# Altium footprint library BGC_LSW_Lib.PcbLib: 8 footprints
Each footprint in its own frame and in the unit in brackets; x right, y up, seen from the top. Pads: shape width x height; smd on the part's side, far side on the other; paste and mask are expansions set on the pad; w line width, h text height; cw(c..) or ccw(c..) is an arc to the next point about the centre after c.
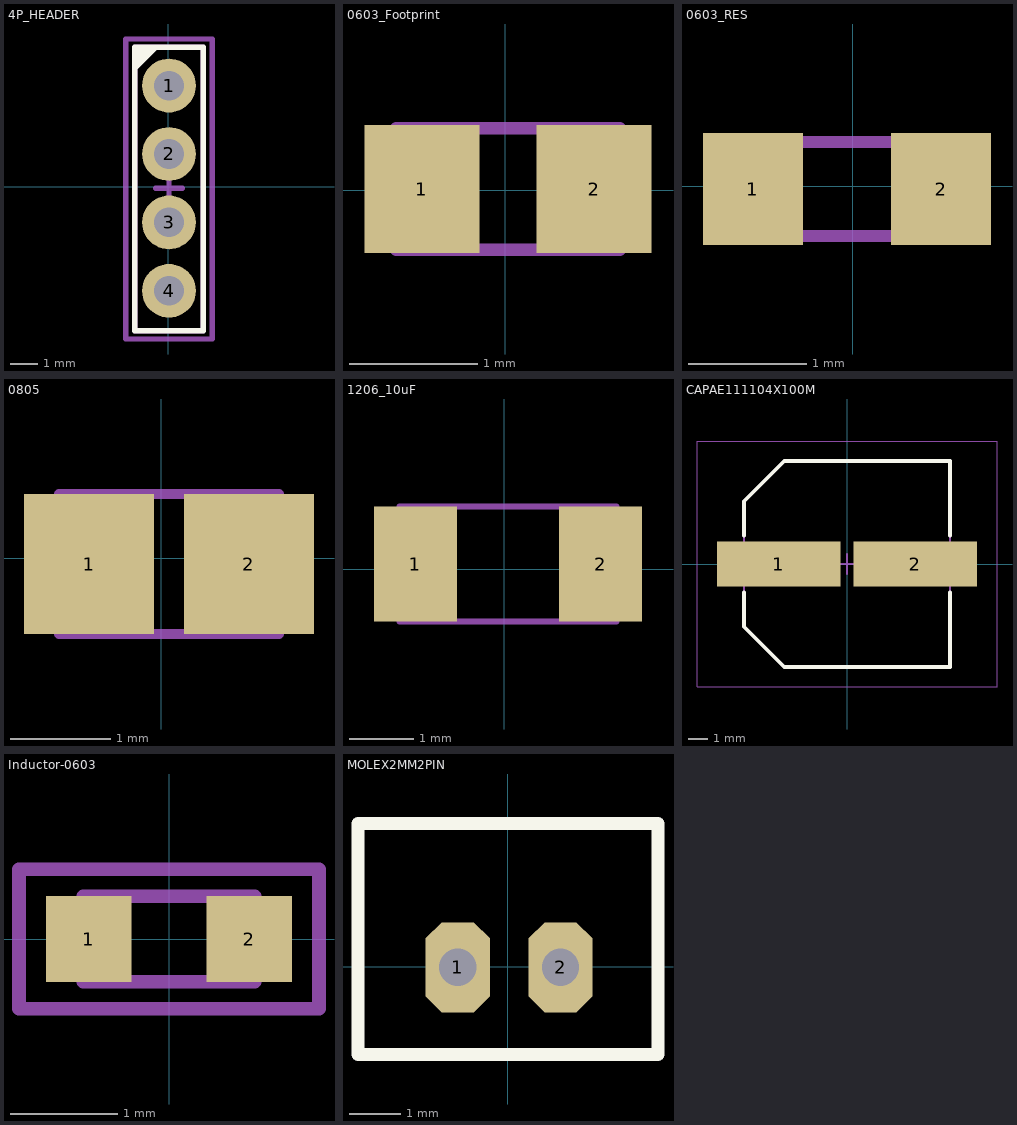
[diagram p0: the footprints below, top view; thin cyan lines are the x and y axes]

## 4P_HEADER [mm]
pads (4):
  round 2 hole 1.1: 1(0.025,3.761) 2(0.025,1.221) 3(0.025,-1.319) 4(0.025,-3.859)
Top Overlay:
  region: -1.205,5.221 -1.205,4.321 -0.305,5.221
  lines w0.2: -1.245,-5.349 1.295,-5.349 1.295,5.191 -1.245,5.191 -1.245,-5.349
Top Courtyard:
  lines w0.2: -1.575,-5.649 1.625,-5.649 1.625,5.491 -1.575,5.491 -1.575,-5.649
Top Assembly:
  lines w0.2: -0.475,-0.049 0.525,-0.049 ; 0.025,-0.549 0.025,0.451 ; -1.245,-5.349 1.295,-5.349 1.295,5.191 -1.245,5.191 -1.245,-5.349
3D body "M20-7820442.step": height 8.5, standoff -3, extent -1.225,-5.329 1.275,5.231

## 0603_Footprint [mm]
pads (2):
  rect 0.9x1 smd: 1(-0.655,0.01) 2(0.695,0.01)
Mechanical 13:
  lines w0.1: -0.855,-0.465 0.895,-0.465 0.895,0.485 -0.855,0.485 -0.855,-0.465
3D body "0603 cap.STEP": height 0.82, standoff 0, extent -0.78,-0.401 0.82,0.423

## 0603_RES [mm]
pads (2):
  rect 0.85x0.95 smd: 1(-0.85,-0.023) 2(0.75,-0.023)
Mechanical 13:
  lines w0.1: -0.85,-0.423 0.75,-0.423 0.75,0.377 -0.85,0.377 -0.85,-0.423
3D body "MCMR06X2702FTL.stp": height 0.55, standoff 0, extent -0.85,-0.423 0.75,0.377

## 0805 [mm]
pads (2):
  rect 1.3x1.4 smd: 1(-0.721,-0.06) 2(0.879,-0.06)
Mechanical 13:
  lines w0.1: -1.021,-0.76 -1.021,0.64 1.179,0.64 1.179,-0.76 -1.021,-0.76
3D body "0805 cap.STEP": height 1.26, standoff -0.02, extent -0.921,-0.697 1.079,0.577

## 1206_10uF [mm]
pads (2):
  rect 1.3x1.8 smd: 1(-1.394,0.086) 2(1.506,0.086)
Mechanical 13:
  lines w0.1: -1.644,-0.814 1.756,-0.814 1.756,0.986 -1.644,0.986 -1.644,-0.814
3D body "CAP 1206-0.8mm.STEP": height 0.8, standoff 0, extent -1.544,-0.714 1.656,0.886

## CAPAE111104X100M [mm] "Aluminum Electrolytic Capacitor, Body 10,40x10,40x10,00mm, IPC Low Density"
height 10
pads (2):
  rect 6.3x2.3 smd: 1(-3.475,0) 2(3.475,0)
Top Overlay:
  lines w0.2: -5.25,-1.45 -5.25,-3.2 -3.2,-5.25 5.25,-5.25 5.25,-1.45 ; -5.25,1.45 -5.25,3.2 -3.2,5.25 5.25,5.25 5.25,1.45
Top Courtyard:
  lines w0.05: -7.65,-6.25 7.65,-6.25 7.65,6.25 -7.65,6.25 -7.65,-6.25
  lines w0.1: -0.5,0 0.5,0 ; 0,-0.5 0,0.5
Top Assembly:
  lines w0.1: -5.25,-3.2 -5.25,3.2 -3.2,5.25 5.25,5.25 5.25,-5.25 -3.2,-5.25 -5.25,-3.2
3D body: height 10, standoff 0, extent -5,-5 5,5
3D body: height 3.34, standoff 0, extent -5.25,-5.25 5.25,5.25

## Inductor-0603 [mm]
pads (2):
  rect 0.8x0.8 smd: 1(-0.75,0) 2(0.75,0)
Mechanical 13:
  lines w0.127: -0.8,-0.4 0.8,-0.4 0.8,0.4 -0.8,0.4 -0.8,-0.4
Mechanical 15:
  lines w0.127: -1.4,-0.65 1.4,-0.65 1.4,0.65 -1.4,0.65 -1.4,-0.65
3D body "CRG0603F1K0.STEP": height 0.55, standoff 0, extent -0.8,-0.4 0.8,0.4

## MOLEX2MM2PIN [mm]
pads (2):
  oct 1.25x1.75 hole 0.725: 1(-0.977,-0.015) 2(1.023,-0.015)
Top Overlay:
  lines w0.254: -2.916,-1.715 2.919,-1.715 2.919,2.785 -2.916,2.785 -2.916,-1.715
3D body "B2B-PH-K-S 3D Model.step": height 6, standoff -3.3, extent -2.92,-1.715 2.98,2.785